# Altium footprint library PHDR-2X5-SMD-M 1.27mm.PcbLib: 1 footprints
Each footprint in its own frame and in the unit in brackets; x right, y up, seen from the top. Pads: shape width x height; smd on the part's side, far side on the other; paste and mask are expansions set on the pad; w line width, h text height; cw(c..) or ccw(c..) is an arc to the next point about the centre after c.
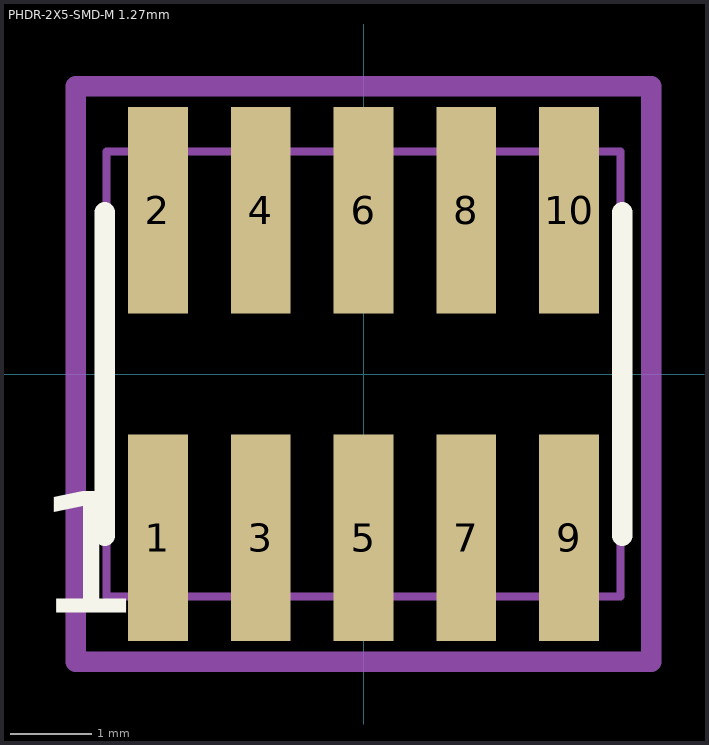
[diagram p0: the footprint, top view; thin cyan lines are the x and y axes]

## PHDR-2X5-SMD-M 1.27mm [mm] "PinHeader 2x5 SMD Pitch 1.27mm"
height 9.5
pads (10):
  rect 0.74x2.55 smd: 1(-2.54,-2.025) 2(-2.54,2.025) 3(-1.27,-2.025) 4(-1.27,2.025) 5(0,-2.025) 6(0,2.025) 7(1.27,-2.025) 8(1.27,2.025) 9(2.54,-2.025) 10(2.54,2.025)
Top Overlay:
  lines w0.254: -3.2,-2 -3.2,2 ; 3.2,-2 3.2,2
  text "1" at -4.05,-2.95 h1.5
Top Assembly:
  circle w0.3: c-2.54,-2.025 r0.15
  lines w0.1: -3.175,-2.75 3.175,-2.75 3.175,2.75 -3.175,2.75 -3.175,-2.75
Top Courtyard:
  lines w0.05: -3.5,-3.6 -3.5,3.6 3.5,3.6 3.5,-3.6 -3.5,-3.6
Top Designator:
  text ".Designator" at -4.511,-0.453 h2
Bottom Assembly:
  lines w0.254: -3.556,-3.556 3.556,-3.556 3.556,3.556 -3.556,3.556 -3.556,-3.556
  text ".designator" at -3.999,-0.267 h0.8
  text "." at -2.54,-2.794 h1
3D body "M50-3600542.STEP": height 4.5, standoff -0.18, extent -3.175,-2.75 3.175,2.75